# Altium schematic symbol library DPDT Switch.Schlib: 1 symbol
Pins are listed as number, name and electrical type; pins without a type are passive.

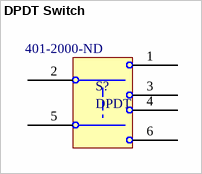
[diagram p0: symbol DPDT Switch]

## DPDT Switch
designator S?, comment DPDT  Supplier Part Number 1: 401-2000-ND
DPDT Switch, customized for the pinout of the JS202011AQN switch.; Supplier 1: Digi-Key
footprint JS202011AQN - Slide Switch
pins: 1 POLE1A, 2 POLE1, 3 POLE1B, 4 POLE2A, 5 POLE2, 6 POLE2B